# Altium schematic symbol library AD8009AR.SchLib: 1 symbol
Pins are listed as number, name and electrical type; pins without a type are passive.

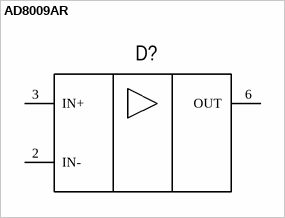
[diagram p0: symbol AD8009AR]

## AD8009AR
designator D?  (value not drawn)
pins: 2 IN-, 3 IN+, 4 V- (power) hidden, 6 OUT, 7 V+ (power) hidden
1 alternate drawing of the same symbol